# EAGLE library part THS45* (library NewSDR)
Wideband, Low Noise, Low Distortion Fully Differential Amplifier With Rail-to-Rail Outputs Texas Instruments
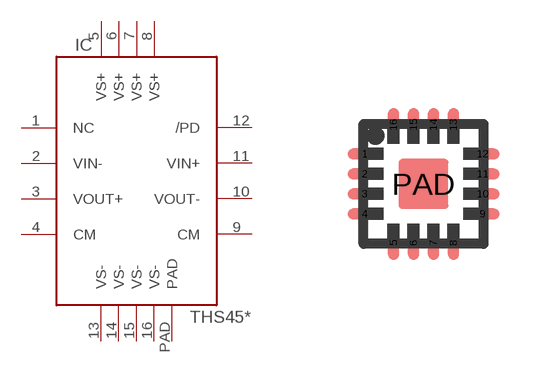
[diagram p46: symbol with the pads of QFN16; footprint QFN16]

Designator prefix IC

## THS4509, THS4520  [QFN16]
1  NC  nc
2  VIN-  in
3  VOUT+  in
4  CM  in
5  VS+  pwr
6  VS+  pwr
7  VS+  pwr
8  VS+  pwr
9  CM  in
10  VOUT-  out
11  VIN+  out
12  /PD  in
13  VS-  pwr
14  VS-  pwr
15  VS-  pwr
16  VS-  pwr
PAD  PAD  pwr

## Footprint QFN16 (pad centres in mm)
QFN-16 Quad Flat No Leads
smd 0.85 x 0.28: 1 -1.475,0.75; 2 -1.475,0.25; 3 -1.475,-0.25; 4 -1.475,-0.75; 9 1.475,-0.75; 10 1.475,-0.25; 11 1.475,0.25; 12 1.475,0.75
smd 0.28 x 0.85: 5 -0.75,-1.475; 6 -0.25,-1.475; 7 0.25,-1.475; 8 0.75,-1.475; 13 0.75,1.475; 14 0.25,1.475; 15 -0.25,1.475; 16 -0.75,1.475
smd 1.245 x 1.245: PAD 0,0